# EAGLE library part 2000-1-1-20-00-BK (library SamacSys_Parts)
HDMI A TYPE FEMALE 90 DIP Source: Datasheet <http://cnctech.us/pdfs/2000-1-1-20-00-BK.pdf>
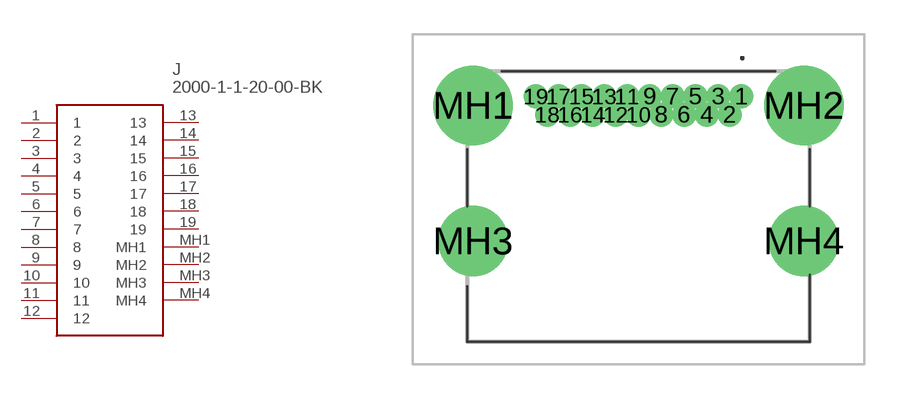
[diagram p17: symbol with the pads of 2000112000BK; footprint 2000112000BK]

Designator prefix J

## 2000-1-1-20-00-BK (DESCRIPTION: HDMI A TYPE FEMALE 90 DIP; HEIGHT: 8.23mm; MANUFACTURER_NAME: CNC Tech; MANUFACTURER_PART_NUMBER: 2000-1-1-20-00-BK)  [2000112000BK]
1  1
2  2
3  3
4  4
5  5
6  6
7  7
8  8
9  9
10  10
11  11
12  12
13  13
14  14
15  15
16  16
17  17
18  18
19  19
MH1  MH1
MH2  MH2
MH3  MH3
MH4  MH4

## Footprint 2000112000BK (pad centres in mm)
2000-1-1-20-00-BK-2
drill 0.55 pad 0.8: 1 0,0; 2 -0.5,-0.8; 3 -1,0; 4 -1.5,-0.8; 5 -2,0; 6 -2.5,-0.8; 7 -3,0; 8 -3.5,-0.8; 9 -4,0; 10 -4.5,-0.8; 11 -5,0; 12 -5.5,-0.8; 13 -6,0; 14 -6.5,-0.8; 15 -7,0; 16 -7.5,-0.8; 17 -8,0; 18 -8.5,-0.8; 19 -9,0
drill 2.47 pad 3.3: MH1 -11.75,-0.4; MH2 2.75,-0.4
drill 2.059 pad 2.8: MH3 -11.75,-6.34; MH4 2.75,-6.34